# Altium schematic symbol library Module-RF.SchLib: 8 symbols
Pins are listed as number, name and electrical type; pins without a type are passive.

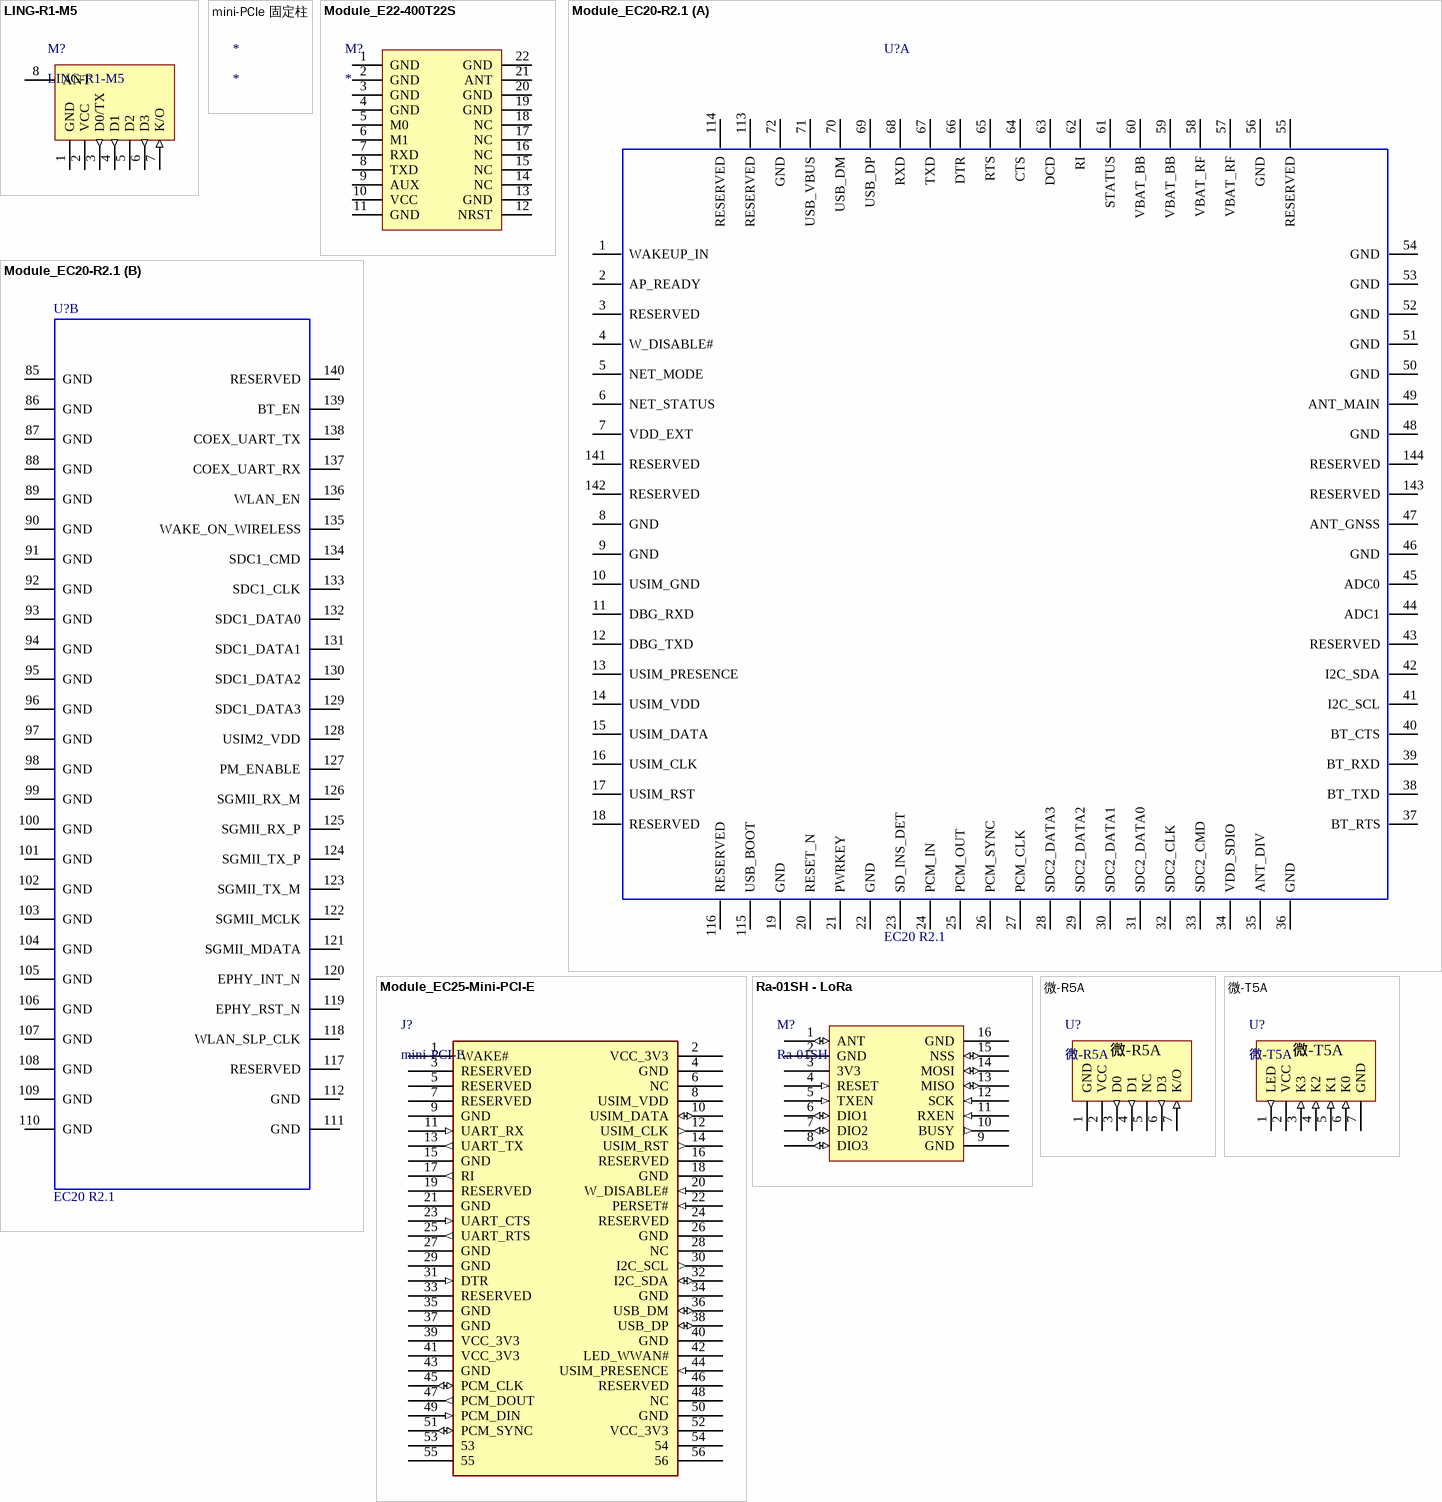
[diagram p0: symbols LING-R1-M5 to 微-T5A]

## LING-R1-M5
designator M?
蜂鸟无线模块; Manufacturer_Name: 蜂鸟无线; Manufacturer_Part_Number: *
footprint LING-R1 (蜂鸟无线模块 灵-R1)
pins: 1 GND (power), 2 VCC (power) "2.0-5V", 3 D0/TX (out), 4 D1 (out), 5 D2, 6 D3 (out), 7 K/O (in), 8 ANT

## mini-PCIe 固定柱
designator *
Pcie

## Module_E22-400T22S
designator M?
LoRa模块 亿佰特
footprint PE22-400T22S (26mm**16mm*3.23mm-S)
pins: 1 GND, 2 GND, 3 GND, 4 GND, 5 M0, 6 M1, 7 RXD, 8 TXD, 9 AUX, 10 VCC, 11 GND, 12 NRST, 13 GND, 14 NC, 15 NC, 16 NC, 17 NC, 18 NC, 19 GND, 20 GND, 21 ANT, 22 GND

## Module_EC20-R2.1
designator U?, comment EC20 R2.1
EC20邮票孔模组
footprint LCC-144_29.0X32.0X1.3P (EC20 4G模块邮票孔封装)
part A pins: 1 WAKEUP_IN, 2 AP_READY, 3 RESERVED, 4 W_DISABLE#, 5 NET_MODE, 6 NET_STATUS, 7 VDD_EXT, 8 GND, 9 GND, 10 USIM_GND, 11 DBG_RXD, 12 DBG_TXD, 13 USIM_PRESENCE, 14 USIM_VDD, 15 USIM_DATA, 16 USIM_CLK, 17 USIM_RST, 18 RESERVED, 19 GND, 20 RESET_N, 21 PWRKEY, 22 GND, 23 SD_INS_DET, 24 PCM_IN, 25 PCM_OUT, 26 PCM_SYNC, 27 PCM_CLK, 28 SDC2_DATA3, 29 SDC2_DATA2, 30 SDC2_DATA1, 31 SDC2_DATA0, 32 SDC2_CLK, 33 SDC2_CMD, 34 VDD_SDIO, 35 ANT_DIV, 36 GND, 37 BT_RTS, 38 BT_TXD, 39 BT_RXD, 40 BT_CTS, 41 I2C_SCL, 42 I2C_SDA, 43 RESERVED, 44 ADC1, 45 ADC0, 46 GND, 47 ANT_GNSS, 48 GND, 49 ANT_MAIN, 50 GND, 51 GND, 52 GND, 53 GND, 54 GND, 55 RESERVED, 56 GND, 57 VBAT_RF, 58 VBAT_RF, 59 VBAT_BB, 60 VBAT_BB, 61 STATUS, 62 RI, 63 DCD, 64 CTS, 65 RTS, 66 DTR, 67 TXD, 68 RXD, 69 USB_DP, 70 USB_DM, 71 USB_VBUS, 72 GND, 113 RESERVED, 114 RESERVED, 115 USB_BOOT, 116 RESERVED, 141 RESERVED, 142 RESERVED, 143 RESERVED, 144 RESERVED
part B pins: 85 GND, 86 GND, 87 GND, 88 GND, 89 GND, 90 GND, 91 GND, 92 GND, 93 GND, 94 GND, 95 GND, 96 GND, 97 GND, 98 GND, 99 GND, 100 GND, 101 GND, 102 GND, 103 GND, 104 GND, 105 GND, 106 GND, 107 GND, 108 GND, 109 GND, 110 GND, 111 GND, 112 GND, 117 RESERVED, 118 WLAN_SLP_CLK, 119 EPHY_RST_N, 120 EPHY_INT_N, 121 SGMII_MDATA, 122 SGMII_MCLK, 123 SGMII_TX_M, 124 SGMII_TX_P, 125 SGMII_RX_P, 126 SGMII_RX_M, 127 PM_ENABLE, 128 USIM2_VDD, 129 SDC1_DATA3, 130 SDC1_DATA2, 131 SDC1_DATA1, 132 SDC1_DATA0, 133 SDC1_CLK, 134 SDC1_CMD, 135 WAKE_ON_WIRELESS, 136 WLAN_EN, 137 COEX_UART_RX, 138 COEX_UART_TX, 139 BT_EN, 140 RESERVED
2 alternate drawings of the same symbol

## Module_EC25-Mini-PCI-E
designator J?, comment mini-PCI-E
EC25 mini-PCI-E 座子
footprint MINI-PCI-E-5.2H (MINI PCI-e 52P贴片插座，间距0.8mm 高度9mm)
footprint MINI-PCI-E - 9.9H (MINI PCI-e 52P贴片插座，间距0.8mm 高度9mm)
footprint MINI-PCI-E-4H (MINI PCI-e 52P贴片插座)
pins: 1 WAKE# (oc), 2 VCC_3V3 (power), 3 RESERVED, 4 GND (power), 5 RESERVED, 6 NC, 7 RESERVED, 8 USIM_VDD (power), 9 GND (power), 10 USIM_DATA (io), 11 UART_RX (in), 12 USIM_CLK (out), 13 UART_TX (out), 14 USIM_RST (out), 15 GND (power), 16 RESERVED, 17 RI (out), 18 GND (power), 19 RESERVED, 20 W_DISABLE# (in), 21 GND (power), 22 PERSET# (in), 23 UART_CTS (in), 24 RESERVED, 25 UART_RTS (out), 26 GND (power), 27 GND (power), 28 NC, 29 GND (power), 30 I2C_SCL (out), 31 DTR (in), 32 I2C_SDA (io), 33 RESERVED, 34 GND (power), 35 GND (power), 36 USB_DM (io), 37 GND (power), 38 USB_DP (io), 39 VCC_3V3 (power), 40 GND (power), 41 VCC_3V3 (power), 42 LED_WWAN# (oc), 43 GND (power), 44 USIM_PRESENCE (in), 45 PCM_CLK (io), 46 RESERVED, 47 PCM_DOUT (out), 48 NC (power), 49 PCM_DIN (in), 50 GND (power), 51 PCM_SYNC (io), 52 VCC_3V3, 53, 54, 55, 56

## Ra-01SH - LoRa
designator M?, comment Ra-01SH
LoRa 模组; Manufacturer_Name: Ai-Thinker(安信可); Manufacturer_Part_Number: Ra-01SH; LCSC: C2764087
footprint Ra-01SH (LoRa 模组)
pins: 1 ANT (io), 2 GND (power), 3 3V3 (power), 4 RESET (in), 5 TXEN (in), 6 DIO1 (io), 7 DIO2 (io), 8 DIO3 (io), 9 GND (power), 10 BUSY (out), 11 RXEN (in), 12 SCK (in), 13 MISO (io), 14 MOSI (io), 15 NSS (io), 16 GND (power)

## 微-R5A
designator U?
无线接受模块（默认433.92Mhz）; Manufacturer_Name: 蜂鸟无线; Manufacturer_Part_Number: 微-T5A; LCSC: C5118060
footprint WEI-R5A
pins: 1 GND (power), 2 VCC (power) "2.0-5V", 3 D0 (out), 4 D1 (out), 5 NC, 6 D3 (out), 7 K/O (in)

## 微-T5A
designator U?
无线发送模块（默认433.92Mhz）; Manufacturer_Name: 蜂鸟无线; Manufacturer_Part_Number: 微-T5A; LCSC: C5118059
footprint WEI-T5A
pins: 1 LED (out) "低电流LED限流电阻2k-10k", 2 VCC (power) "2.0-5V", 3 K3 (in), 4 K2 (in), 5 K1 (in), 6 K0 (in), 7 GND (power)